# EAGLE library part AT90USB162 (library Atmel)
Atmel AT90USB162 AVR Microcontroller with USB controller
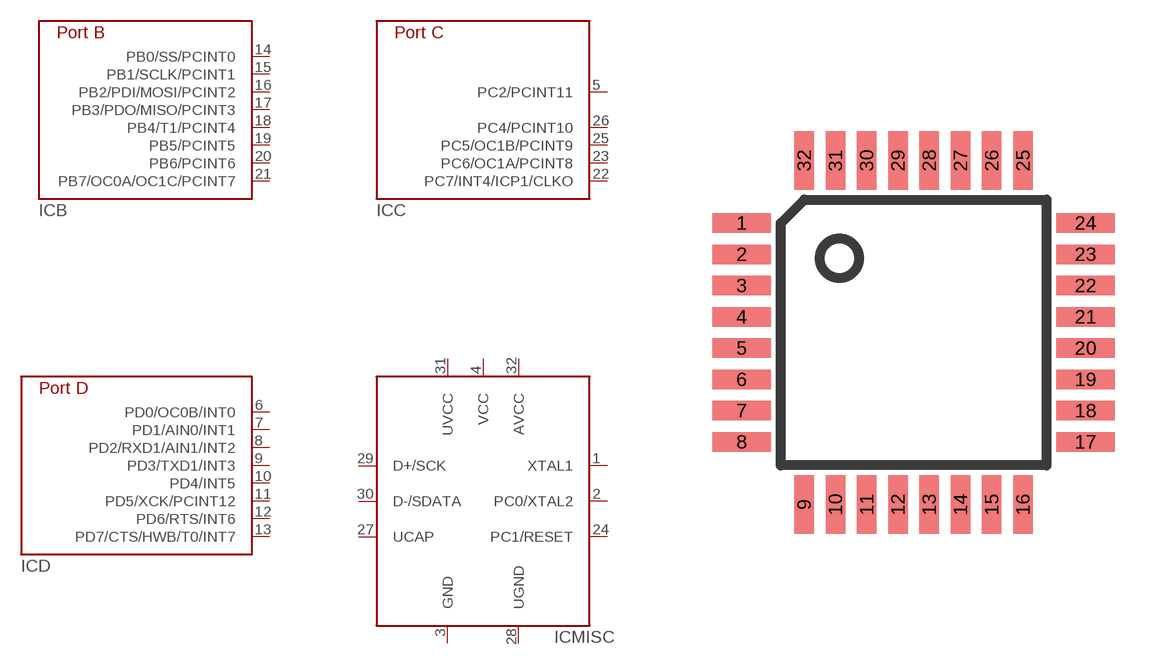
[diagram p6: symbol with the pads of TQFP32-32A; footprint TQFP32-32A]

Designator prefix IC; gates B=AT90USB162-B C=AT90USB162-C D=AT90USB162-D MISC=AT90USB162-MISC

## AT90USB162-16AU  [TQFP32-32A]
1  MISC:XTAL1
2  MISC:PC0/XTAL2
3  MISC:GND
4  MISC:VCC
5  C:PC2/PCINT11
6  D:PD0/OC0B/INT0
7  D:PD1/AIN0/INT1
8  D:PD2/RXD1/AIN1/INT2
9  D:PD3/TXD1/INT3
10  D:PD4/INT5
11  D:PD5/XCK/PCINT12
12  D:PD6/RTS/INT6
13  D:PD7/CTS/HWB/T0/INT7
14  B:PB0/SS/PCINT0
15  B:PB1/SCLK/PCINT1
16  B:PB2/PDI/MOSI/PCINT2
17  B:PB3/PDO/MISO/PCINT3
18  B:PB4/T1/PCINT4
19  B:PB5/PCINT5
20  B:PB6/PCINT6
21  B:PB7/OC0A/OC1C/PCINT7
22  C:PC7/INT4/ICP1/CLKO
23  C:PC6/OC1A/PCINT8
24  MISC:PC1/RESET
25  C:PC5/OC1B/PCINT9
26  C:PC4/PCINT10
27  MISC:UCAP
28  MISC:UGND
29  MISC:D+/SCK
30  MISC:D-/SDATA
31  MISC:UVCC
32  MISC:AVCC

## Footprint TQFP32-32A (pad centres in mm)
32A, 32-lead, 7x7x1.0mm Body Size, 0.8mm lead pitch, Thin Profile Quad Flat Package (TQFP)
smd 1.5 x 0.5: 1 -4.4,2.8; 2 -4.4,2; 3 -4.4,1.2; 4 -4.4,0.4; 5 -4.4,-0.4; 6 -4.4,-1.2; 7 -4.4,-2; 8 -4.4,-2.8; 17 4.4,-2.8; 18 4.4,-2; 19 4.4,-1.2; 20 4.4,-0.4; 21 4.4,0.4; 22 4.4,1.2; 23 4.4,2; 24 4.4,2.8
smd 0.5 x 1.5: 9 -2.8,-4.4; 10 -2,-4.4; 11 -1.2,-4.4; 12 -0.4,-4.4; 13 0.4,-4.4; 14 1.2,-4.4; 15 2,-4.4; 16 2.8,-4.4; 25 2.8,4.4; 26 2,4.4; 27 1.2,4.4; 28 0.4,4.4; 29 -0.4,4.4; 30 -1.2,4.4; 31 -2,4.4; 32 -2.8,4.4